# Altium footprint library Gennum Footprints.PcbLib: 88 footprints (part 2 of 6)
Each footprint in its own frame and in the unit in brackets; x right, y up, seen from the top. Pads: shape width x height; smd on the part's side, far side on the other; paste and mask are expansions set on the pad; w line width, h text height; cw(c..) or ccw(c..) is an arc to the next point about the centre after c.
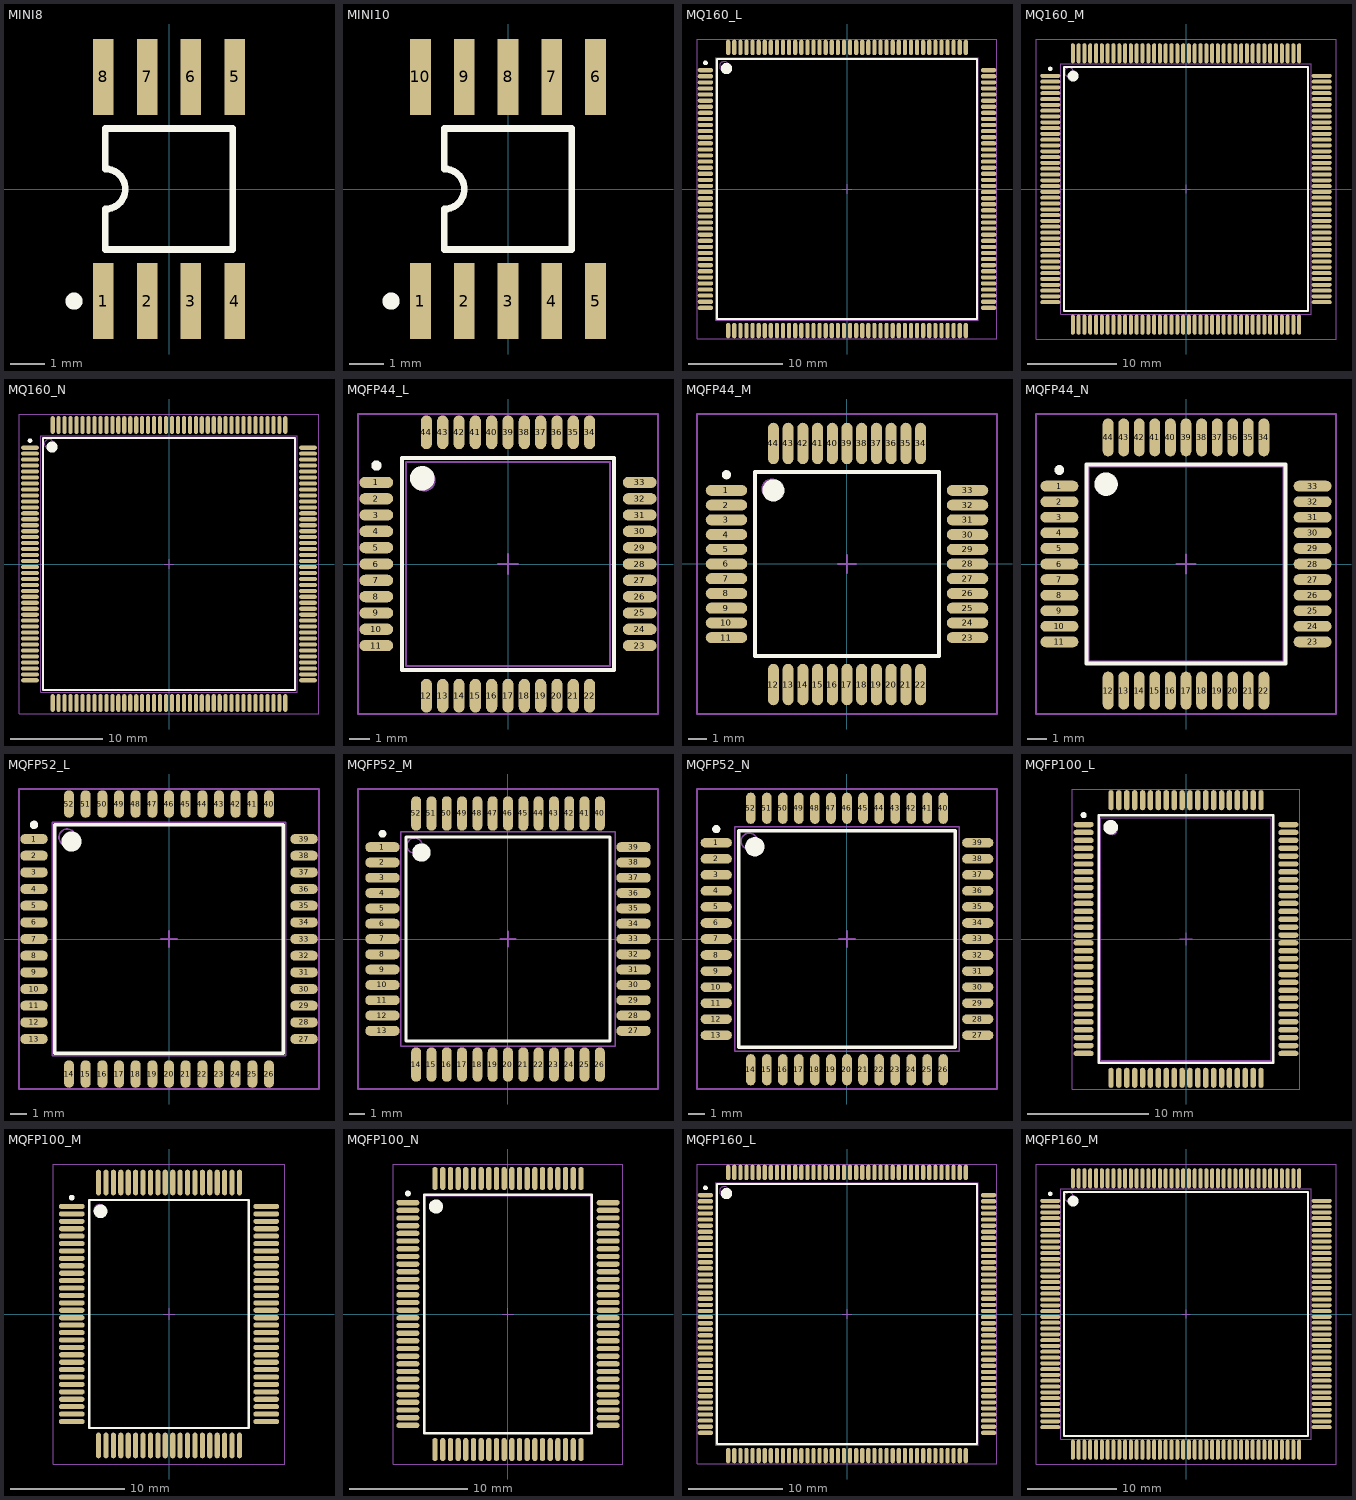
[diagram p1: the footprints below, top view; thin cyan lines are the x and y axes]

## MINI8 [mm] "DFP; 8 Leads; Body 3.7 x 3.6 mm (LxW max); Pitch 1.27 mm"
height 1.8
pads (8):
  rect 0.6x2.2 smd: 1(-1.905,-3.25) 2(-0.635,-3.25) 3(0.635,-3.25) 4(1.905,-3.25) 5(1.905,3.25) 6(0.635,3.25) 7(-0.635,3.25) 8(-1.905,3.25)
Top Overlay:
  circle w0.25: c-2.755,-3.25 r0.125
  lines w0.2: -1.85,-1.75 -1.85,-0.583 ccw(c-1.85,0) -1.85,0.583 -1.85,1.75 1.85,1.75 1.85,-1.75 -1.85,-1.75

## MINI10 [mm] "DFP; 10 Leads; Body 3.7 x 3.6 mm (LxW max); Pitch 1.27 mm"
height 1.8
pads (10):
  rect 0.6x2.2 smd: 1(-2.54,-3.25) 2(-1.27,-3.25) 3(0,-3.25) 4(1.27,-3.25) 5(2.54,-3.25) 6(2.54,3.25) 7(1.27,3.25) 8(0,3.25) 9(-1.27,3.25) 10(-2.54,3.25)
Top Overlay:
  circle w0.25: c-3.39,-3.25 r0.125
  lines w0.2: -1.85,-1.75 1.85,-1.75 1.85,1.75 -1.85,1.75 -1.85,0.583 cw(c-1.85,0) -1.85,-0.583 -1.85,-1.75

## MQ160_L [mm] "160-Pin Quad Flat Pack 0.65 mm Pitch, IPC High Density"
height 3.86
pads (160):
  oval 1.65x0.45 smd: 1(-15.1,12.675) 2(-15.1,12.025) 3(-15.1,11.375) 4(-15.1,10.725) 5(-15.1,10.075) 6(-15.1,9.425) 7(-15.1,8.775) 8(-15.1,8.125) 9(-15.1,7.475) 10(-15.1,6.825) 11(-15.1,6.175) 12(-15.1,5.525) 13(-15.1,4.875) 14(-15.1,4.225) 15(-15.1,3.575) 16(-15.1,2.925) 17(-15.1,2.275) 18(-15.1,1.625) 19(-15.1,0.975) 20(-15.1,0.325) 21(-15.1,-0.325) 22(-15.1,-0.975) 23(-15.1,-1.625) 24(-15.1,-2.275) 25(-15.1,-2.925) 26(-15.1,-3.575) 27(-15.1,-4.225) 28(-15.1,-4.875) 29(-15.1,-5.525) 30(-15.1,-6.175) 31(-15.1,-6.825) 32(-15.1,-7.475) 33(-15.1,-8.125) 34(-15.1,-8.775) 35(-15.1,-9.425) 36(-15.1,-10.075) 37(-15.1,-10.725) 38(-15.1,-11.375) 39(-15.1,-12.025) 40(-15.1,-12.675) 81(15.1,-12.675) 82(15.1,-12.025) 83(15.1,-11.375) 84(15.1,-10.725) 85(15.1,-10.075) 86(15.1,-9.425) 87(15.1,-8.775) 88(15.1,-8.125) 89(15.1,-7.475) 90(15.1,-6.825) 91(15.1,-6.175) 92(15.1,-5.525) 93(15.1,-4.875) 94(15.1,-4.225) 95(15.1,-3.575) 96(15.1,-2.925) 97(15.1,-2.275) 98(15.1,-1.625) 99(15.1,-0.975) 100(15.1,-0.325) 101(15.1,0.325) 102(15.1,0.975) 103(15.1,1.625) 104(15.1,2.275) 105(15.1,2.925) 106(15.1,3.575) 107(15.1,4.225) 108(15.1,4.875) 109(15.1,5.525) 110(15.1,6.175) 111(15.1,6.825) 112(15.1,7.475) 113(15.1,8.125) 114(15.1,8.775) 115(15.1,9.425) 116(15.1,10.075) 117(15.1,10.725) 118(15.1,11.375) 119(15.1,12.025) 120(15.1,12.675)
  oval 0.45x1.65 smd: 41(-12.675,-15.1) 42(-12.025,-15.1) 43(-11.375,-15.1) 44(-10.725,-15.1) 45(-10.075,-15.1) 46(-9.425,-15.1) 47(-8.775,-15.1) 48(-8.125,-15.1) 49(-7.475,-15.1) 50(-6.825,-15.1) 51(-6.175,-15.1) 52(-5.525,-15.1) 53(-4.875,-15.1) 54(-4.225,-15.1) 55(-3.575,-15.1) 56(-2.925,-15.1) 57(-2.275,-15.1) 58(-1.625,-15.1) 59(-0.975,-15.1) 60(-0.325,-15.1) 61(0.325,-15.1) 62(0.975,-15.1) 63(1.625,-15.1) 64(2.275,-15.1) 65(2.925,-15.1) 66(3.575,-15.1) 67(4.225,-15.1) 68(4.875,-15.1) 69(5.525,-15.1) 70(6.175,-15.1) 71(6.825,-15.1) 72(7.475,-15.1) 73(8.125,-15.1) 74(8.775,-15.1) 75(9.425,-15.1) 76(10.075,-15.1) 77(10.725,-15.1) 78(11.375,-15.1) 79(12.025,-15.1) 80(12.675,-15.1) 121(12.675,15.1) 122(12.025,15.1) 123(11.375,15.1) 124(10.725,15.1) 125(10.075,15.1) 126(9.425,15.1) 127(8.775,15.1) 128(8.125,15.1) 129(7.475,15.1) 130(6.825,15.1) 131(6.175,15.1) 132(5.525,15.1) 133(4.875,15.1) 134(4.225,15.1) 135(3.575,15.1) 136(2.925,15.1) 137(2.275,15.1) 138(1.625,15.1) 139(0.975,15.1) 140(0.325,15.1) 141(-0.325,15.1) 142(-0.975,15.1) 143(-1.625,15.1) 144(-2.275,15.1) 145(-2.925,15.1) 146(-3.575,15.1) 147(-4.225,15.1) 148(-4.875,15.1) 149(-5.525,15.1) 150(-6.175,15.1) 151(-6.825,15.1) 152(-7.475,15.1) 153(-8.125,15.1) 154(-8.775,15.1) 155(-9.425,15.1) 156(-10.075,15.1) 157(-10.725,15.1) 158(-11.375,15.1) 159(-12.025,15.1) 160(-12.675,15.1)
Top Overlay:
  circle w0.6: c-12.85,12.85 r0.3
  circle w0.25: c-15.1,13.45 r0.125
  lines w0.2: -13.85,-13.85 13.85,-13.85 13.85,13.85 -13.85,13.85 -13.85,-13.85
Mechanical 13:
  circle w0.1: c-13.1,13.1 r0.5
  lines w0.1: -14,-14 14,-14 14,14 -14,14 -14,-14
Mechanical 15:
  lines w0.1: -0.5,0 0.5,0 ; 0,-0.5 0,0.5 ; -16,-16 16,-16 16,16 -16,16 -16,-16
3D body: height 3.86, standoff 0, extent -14,-14 14,14

## MQ160_M [mm] "160-Pin Quad Flat Pack 0.65 mm Pitch, IPC Low Density"
height 3.86
pads (160):
  oval 2.25x0.45 smd: 1(-15.2,12.675) 2(-15.2,12.025) 3(-15.2,11.375) 4(-15.2,10.725) 5(-15.2,10.075) 6(-15.2,9.425) 7(-15.2,8.775) 8(-15.2,8.125) 9(-15.2,7.475) 10(-15.2,6.825) 11(-15.2,6.175) 12(-15.2,5.525) 13(-15.2,4.875) 14(-15.2,4.225) 15(-15.2,3.575) 16(-15.2,2.925) 17(-15.2,2.275) 18(-15.2,1.625) 19(-15.2,0.975) 20(-15.2,0.325) 21(-15.2,-0.325) 22(-15.2,-0.975) 23(-15.2,-1.625) 24(-15.2,-2.275) 25(-15.2,-2.925) 26(-15.2,-3.575) 27(-15.2,-4.225) 28(-15.2,-4.875) 29(-15.2,-5.525) 30(-15.2,-6.175) 31(-15.2,-6.825) 32(-15.2,-7.475) 33(-15.2,-8.125) 34(-15.2,-8.775) 35(-15.2,-9.425) 36(-15.2,-10.075) 37(-15.2,-10.725) 38(-15.2,-11.375) 39(-15.2,-12.025) 40(-15.2,-12.675) 81(15.2,-12.675) 82(15.2,-12.025) 83(15.2,-11.375) 84(15.2,-10.725) 85(15.2,-10.075) 86(15.2,-9.425) 87(15.2,-8.775) 88(15.2,-8.125) 89(15.2,-7.475) 90(15.2,-6.825) 91(15.2,-6.175) 92(15.2,-5.525) 93(15.2,-4.875) 94(15.2,-4.225) 95(15.2,-3.575) 96(15.2,-2.925) 97(15.2,-2.275) 98(15.2,-1.625) 99(15.2,-0.975) 100(15.2,-0.325) 101(15.2,0.325) 102(15.2,0.975) 103(15.2,1.625) 104(15.2,2.275) 105(15.2,2.925) 106(15.2,3.575) 107(15.2,4.225) 108(15.2,4.875) 109(15.2,5.525) 110(15.2,6.175) 111(15.2,6.825) 112(15.2,7.475) 113(15.2,8.125) 114(15.2,8.775) 115(15.2,9.425) 116(15.2,10.075) 117(15.2,10.725) 118(15.2,11.375) 119(15.2,12.025) 120(15.2,12.675)
  oval 0.45x2.25 smd: 41(-12.675,-15.2) 42(-12.025,-15.2) 43(-11.375,-15.2) 44(-10.725,-15.2) 45(-10.075,-15.2) 46(-9.425,-15.2) 47(-8.775,-15.2) 48(-8.125,-15.2) 49(-7.475,-15.2) 50(-6.825,-15.2) 51(-6.175,-15.2) 52(-5.525,-15.2) 53(-4.875,-15.2) 54(-4.225,-15.2) 55(-3.575,-15.2) 56(-2.925,-15.2) 57(-2.275,-15.2) 58(-1.625,-15.2) 59(-0.975,-15.2) 60(-0.325,-15.2) 61(0.325,-15.2) 62(0.975,-15.2) 63(1.625,-15.2) 64(2.275,-15.2) 65(2.925,-15.2) 66(3.575,-15.2) 67(4.225,-15.2) 68(4.875,-15.2) 69(5.525,-15.2) 70(6.175,-15.2) 71(6.825,-15.2) 72(7.475,-15.2) 73(8.125,-15.2) 74(8.775,-15.2) 75(9.425,-15.2) 76(10.075,-15.2) 77(10.725,-15.2) 78(11.375,-15.2) 79(12.025,-15.2) 80(12.675,-15.2) 121(12.675,15.2) 122(12.025,15.2) 123(11.375,15.2) 124(10.725,15.2) 125(10.075,15.2) 126(9.425,15.2) 127(8.775,15.2) 128(8.125,15.2) 129(7.475,15.2) 130(6.825,15.2) 131(6.175,15.2) 132(5.525,15.2) 133(4.875,15.2) 134(4.225,15.2) 135(3.575,15.2) 136(2.925,15.2) 137(2.275,15.2) 138(1.625,15.2) 139(0.975,15.2) 140(0.325,15.2) 141(-0.325,15.2) 142(-0.975,15.2) 143(-1.625,15.2) 144(-2.275,15.2) 145(-2.925,15.2) 146(-3.575,15.2) 147(-4.225,15.2) 148(-4.875,15.2) 149(-5.525,15.2) 150(-6.175,15.2) 151(-6.825,15.2) 152(-7.475,15.2) 153(-8.125,15.2) 154(-8.775,15.2) 155(-9.425,15.2) 156(-10.075,15.2) 157(-10.725,15.2) 158(-11.375,15.2) 159(-12.025,15.2) 160(-12.675,15.2)
Top Overlay:
  circle w0.6: c-12.65,12.65 r0.3
  circle w0.25: c-15.2,13.45 r0.125
  lines w0.2: -13.65,-13.65 13.65,-13.65 13.65,13.65 -13.65,13.65 -13.65,-13.65
Mechanical 13:
  circle w0.1: c-13.1,13.1 r0.5
  lines w0.1: -14,-14 14,-14 14,14 -14,14 -14,-14
Mechanical 15:
  lines w0.1: -0.5,0 0.5,0 ; 0,-0.5 0,0.5 ; -16.8,-16.8 16.8,-16.8 16.8,16.8 -16.8,16.8 -16.8,-16.8
3D body: height 3.86, standoff 0, extent -14,-14 14,14

## MQ160_N [mm] "160-Pin Quad Flat Pack 0.65 mm Pitch, IPC Medium Density"
height 3.86
pads (160):
  oval 1.95x0.45 smd: 1(-15.15,12.675) 2(-15.15,12.025) 3(-15.15,11.375) 4(-15.15,10.725) 5(-15.15,10.075) 6(-15.15,9.425) 7(-15.15,8.775) 8(-15.15,8.125) 9(-15.15,7.475) 10(-15.15,6.825) 11(-15.15,6.175) 12(-15.15,5.525) 13(-15.15,4.875) 14(-15.15,4.225) 15(-15.15,3.575) 16(-15.15,2.925) 17(-15.15,2.275) 18(-15.15,1.625) 19(-15.15,0.975) 20(-15.15,0.325) 21(-15.15,-0.325) 22(-15.15,-0.975) 23(-15.15,-1.625) 24(-15.15,-2.275) 25(-15.15,-2.925) 26(-15.15,-3.575) 27(-15.15,-4.225) 28(-15.15,-4.875) 29(-15.15,-5.525) 30(-15.15,-6.175) 31(-15.15,-6.825) 32(-15.15,-7.475) 33(-15.15,-8.125) 34(-15.15,-8.775) 35(-15.15,-9.425) 36(-15.15,-10.075) 37(-15.15,-10.725) 38(-15.15,-11.375) 39(-15.15,-12.025) 40(-15.15,-12.675) 81(15.15,-12.675) 82(15.15,-12.025) 83(15.15,-11.375) 84(15.15,-10.725) 85(15.15,-10.075) 86(15.15,-9.425) 87(15.15,-8.775) 88(15.15,-8.125) 89(15.15,-7.475) 90(15.15,-6.825) 91(15.15,-6.175) 92(15.15,-5.525) 93(15.15,-4.875) 94(15.15,-4.225) 95(15.15,-3.575) 96(15.15,-2.925) 97(15.15,-2.275) 98(15.15,-1.625) 99(15.15,-0.975) 100(15.15,-0.325) 101(15.15,0.325) 102(15.15,0.975) 103(15.15,1.625) 104(15.15,2.275) 105(15.15,2.925) 106(15.15,3.575) 107(15.15,4.225) 108(15.15,4.875) 109(15.15,5.525) 110(15.15,6.175) 111(15.15,6.825) 112(15.15,7.475) 113(15.15,8.125) 114(15.15,8.775) 115(15.15,9.425) 116(15.15,10.075) 117(15.15,10.725) 118(15.15,11.375) 119(15.15,12.025) 120(15.15,12.675)
  oval 0.45x1.95 smd: 41(-12.675,-15.15) 42(-12.025,-15.15) 43(-11.375,-15.15) 44(-10.725,-15.15) 45(-10.075,-15.15) 46(-9.425,-15.15) 47(-8.775,-15.15) 48(-8.125,-15.15) 49(-7.475,-15.15) 50(-6.825,-15.15) 51(-6.175,-15.15) 52(-5.525,-15.15) 53(-4.875,-15.15) 54(-4.225,-15.15) 55(-3.575,-15.15) 56(-2.925,-15.15) 57(-2.275,-15.15) 58(-1.625,-15.15) 59(-0.975,-15.15) 60(-0.325,-15.15) 61(0.325,-15.15) 62(0.975,-15.15) 63(1.625,-15.15) 64(2.275,-15.15) 65(2.925,-15.15) 66(3.575,-15.15) 67(4.225,-15.15) 68(4.875,-15.15) 69(5.525,-15.15) 70(6.175,-15.15) 71(6.825,-15.15) 72(7.475,-15.15) 73(8.125,-15.15) 74(8.775,-15.15) 75(9.425,-15.15) 76(10.075,-15.15) 77(10.725,-15.15) 78(11.375,-15.15) 79(12.025,-15.15) 80(12.675,-15.15) 121(12.675,15.15) 122(12.025,15.15) 123(11.375,15.15) 124(10.725,15.15) 125(10.075,15.15) 126(9.425,15.15) 127(8.775,15.15) 128(8.125,15.15) 129(7.475,15.15) 130(6.825,15.15) 131(6.175,15.15) 132(5.525,15.15) 133(4.875,15.15) 134(4.225,15.15) 135(3.575,15.15) 136(2.925,15.15) 137(2.275,15.15) 138(1.625,15.15) 139(0.975,15.15) 140(0.325,15.15) 141(-0.325,15.15) 142(-0.975,15.15) 143(-1.625,15.15) 144(-2.275,15.15) 145(-2.925,15.15) 146(-3.575,15.15) 147(-4.225,15.15) 148(-4.875,15.15) 149(-5.525,15.15) 150(-6.175,15.15) 151(-6.825,15.15) 152(-7.475,15.15) 153(-8.125,15.15) 154(-8.775,15.15) 155(-9.425,15.15) 156(-10.075,15.15) 157(-10.725,15.15) 158(-11.375,15.15) 159(-12.025,15.15) 160(-12.675,15.15)
Top Overlay:
  circle w0.6: c-12.75,12.75 r0.3
  circle w0.25: c-15.15,13.45 r0.125
  lines w0.2: -13.75,-13.75 13.75,-13.75 13.75,13.75 -13.75,13.75 -13.75,-13.75
Mechanical 13:
  circle w0.1: c-13.1,13.1 r0.5
  lines w0.1: -14,-14 14,-14 14,14 -14,14 -14,-14
Mechanical 15:
  lines w0.1: -0.5,0 0.5,0 ; 0,-0.5 0,0.5 ; -16.35,-16.35 16.35,-16.35 16.35,16.35 -16.35,16.35 -16.35,-16.35
3D body: height 3.86, standoff 0, extent -14,-14 14,14

## MQFP44_L [mm] "44-Pin Quad Flat Pack 0.8 mm Pitch, IPC High Density"
height 2.35
pads (44):
  oval 1.65x0.55 smd: 1(-6.45,4) 2(-6.45,3.2) 3(-6.45,2.4) 4(-6.45,1.6) 5(-6.45,0.8) 6(-6.45,0) 7(-6.45,-0.8) 8(-6.45,-1.6) 9(-6.45,-2.4) 10(-6.45,-3.2) 11(-6.45,-4) 23(6.45,-4) 24(6.45,-3.2) 25(6.45,-2.4) 26(6.45,-1.6) 27(6.45,-0.8) 28(6.45,0) 29(6.45,0.8) 30(6.45,1.6) 31(6.45,2.4) 32(6.45,3.2) 33(6.45,4)
  oval 0.55x1.65 smd: 12(-4,-6.45) 13(-3.2,-6.45) 14(-2.4,-6.45) 15(-1.6,-6.45) 16(-0.8,-6.45) 17(0,-6.45) 18(0.8,-6.45) 19(1.6,-6.45) 20(2.4,-6.45) 21(3.2,-6.45) 22(4,-6.45) 34(4,6.45) 35(3.2,6.45) 36(2.4,6.45) 37(1.6,6.45) 38(0.8,6.45) 39(0,6.45) 40(-0.8,6.45) 41(-1.6,6.45) 42(-2.4,6.45) 43(-3.2,6.45) 44(-4,6.45)
Top Overlay:
  circle w0.6: c-4.2,4.2 r0.3
  circle w0.25: c-6.45,4.825 r0.125
  lines w0.2: -5.2,-5.2 5.2,-5.2 5.2,5.2 -5.2,5.2 -5.2,-5.2
Mechanical 13:
  circle w0.1: c-4.1,4.1 r0.5
  lines w0.1: -5,-5 5,-5 5,5 -5,5 -5,-5
Mechanical 15:
  lines w0.1: -0.5,0 0.5,0 ; 0,-0.5 0,0.5 ; -7.35,-7.35 7.35,-7.35 7.35,7.35 -7.35,7.35 -7.35,-7.35
3D body: height 2.35, standoff 0, extent -5,-5 5,5

## MQFP44_M [mm] "44-Pin Quad Flat Pack 0.8 mm Pitch, IPC Low Density"
height 2.35
pads (44):
  oval 2.25x0.6 smd: 1(-6.55,4) 2(-6.55,3.2) 3(-6.55,2.4) 4(-6.55,1.6) 5(-6.55,0.8) 6(-6.55,0) 7(-6.55,-0.8) 8(-6.55,-1.6) 9(-6.55,-2.4) 10(-6.55,-3.2) 11(-6.55,-4) 23(6.55,-4) 24(6.55,-3.2) 25(6.55,-2.4) 26(6.55,-1.6) 27(6.55,-0.8) 28(6.55,0) 29(6.55,0.8) 30(6.55,1.6) 31(6.55,2.4) 32(6.55,3.2) 33(6.55,4)
  oval 0.6x2.25 smd: 12(-4,-6.55) 13(-3.2,-6.55) 14(-2.4,-6.55) 15(-1.6,-6.55) 16(-0.8,-6.55) 17(0,-6.55) 18(0.8,-6.55) 19(1.6,-6.55) 20(2.4,-6.55) 21(3.2,-6.55) 22(4,-6.55) 34(4,6.55) 35(3.2,6.55) 36(2.4,6.55) 37(1.6,6.55) 38(0.8,6.55) 39(0,6.55) 40(-0.8,6.55) 41(-1.6,6.55) 42(-2.4,6.55) 43(-3.2,6.55) 44(-4,6.55)
Top Overlay:
  circle w0.6: c-4,4 r0.3
  circle w0.25: c-6.55,4.85 r0.125
  lines w0.2: -5,-5 5,-5 5,5 -5,5 -5,-5
Mechanical 13:
  circle w0.1: c-4.1,4.1 r0.5
  lines w0.1: -5,-5 5,-5 5,5 -5,5 -5,-5
Mechanical 15:
  lines w0.1: -0.5,0 0.5,0 ; 0,-0.5 0,0.5 ; -8.15,-8.15 8.15,-8.15 8.15,8.15 -8.15,8.15 -8.15,-8.15
3D body: height 2.35, standoff 0, extent -5,-5 5,5

## MQFP44_N [mm] "44-Pin Quad Flat Pack 0.8 mm Pitch, IPC Medium Density"
height 2.35
pads (44):
  oval 1.95x0.55 smd: 1(-6.5,4) 2(-6.5,3.2) 3(-6.5,2.4) 4(-6.5,1.6) 5(-6.5,0.8) 6(-6.5,0) 7(-6.5,-0.8) 8(-6.5,-1.6) 9(-6.5,-2.4) 10(-6.5,-3.2) 11(-6.5,-4) 23(6.5,-4) 24(6.5,-3.2) 25(6.5,-2.4) 26(6.5,-1.6) 27(6.5,-0.8) 28(6.5,0) 29(6.5,0.8) 30(6.5,1.6) 31(6.5,2.4) 32(6.5,3.2) 33(6.5,4)
  oval 0.55x1.95 smd: 12(-4,-6.5) 13(-3.2,-6.5) 14(-2.4,-6.5) 15(-1.6,-6.5) 16(-0.8,-6.5) 17(0,-6.5) 18(0.8,-6.5) 19(1.6,-6.5) 20(2.4,-6.5) 21(3.2,-6.5) 22(4,-6.5) 34(4,6.5) 35(3.2,6.5) 36(2.4,6.5) 37(1.6,6.5) 38(0.8,6.5) 39(0,6.5) 40(-0.8,6.5) 41(-1.6,6.5) 42(-2.4,6.5) 43(-3.2,6.5) 44(-4,6.5)
Top Overlay:
  circle w0.6: c-4.1,4.1 r0.3
  circle w0.25: c-6.5,4.825 r0.125
  lines w0.2: -5.1,-5.1 5.1,-5.1 5.1,5.1 -5.1,5.1 -5.1,-5.1
Mechanical 13:
  circle w0.1: c-4.1,4.1 r0.5
  lines w0.1: -5,-5 5,-5 5,5 -5,5 -5,-5
Mechanical 15:
  lines w0.1: -0.5,0 0.5,0 ; 0,-0.5 0,0.5 ; -7.7,-7.7 7.7,-7.7 7.7,7.7 -7.7,7.7 -7.7,-7.7
3D body: height 2.35, standoff 0, extent -5,-5 5,5

## MQFP52_L [mm] "52-Pin Quad Flat Pack 1 mm Pitch, IPC High Density"
height 3
pads (52):
  oval 1.65x0.6 smd: 1(-8.1,6) 2(-8.1,5) 3(-8.1,4) 4(-8.1,3) 5(-8.1,2) 6(-8.1,1) 7(-8.1,0) 8(-8.1,-1) 9(-8.1,-2) 10(-8.1,-3) 11(-8.1,-4) 12(-8.1,-5) 13(-8.1,-6) 27(8.1,-6) 28(8.1,-5) 29(8.1,-4) 30(8.1,-3) 31(8.1,-2) 32(8.1,-1) 33(8.1,0) 34(8.1,1) 35(8.1,2) 36(8.1,3) 37(8.1,4) 38(8.1,5) 39(8.1,6)
  oval 0.6x1.65 smd: 14(-6,-8.1) 15(-5,-8.1) 16(-4,-8.1) 17(-3,-8.1) 18(-2,-8.1) 19(-1,-8.1) 20(0,-8.1) 21(1,-8.1) 22(2,-8.1) 23(3,-8.1) 24(4,-8.1) 25(5,-8.1) 26(6,-8.1) 40(6,8.1) 41(5,8.1) 42(4,8.1) 43(3,8.1) 44(2,8.1) 45(1,8.1) 46(0,8.1) 47(-1,8.1) 48(-2,8.1) 49(-3,8.1) 50(-4,8.1) 51(-5,8.1) 52(-6,8.1)
Top Overlay:
  circle w0.6: c-5.85,5.85 r0.3
  circle w0.25: c-8.1,6.85 r0.125
  lines w0.2: -6.85,-6.85 6.85,-6.85 6.85,6.85 -6.85,6.85 -6.85,-6.85
Mechanical 13:
  circle w0.1: c-6.1,6.1 r0.5
  lines w0.1: -7,-7 7,-7 7,7 -7,7 -7,-7
Mechanical 15:
  lines w0.1: -0.5,0 0.5,0 ; 0,-0.5 0,0.5 ; -9,-9 9,-9 9,9 -9,9 -9,-9
3D body: height 3, standoff 0, extent -7,-7 7,7

## MQFP52_M [mm] "52-Pin Quad Flat Pack 1 mm Pitch, IPC Low Density"
height 3
pads (52):
  oval 2.25x0.65 smd: 1(-8.2,6) 2(-8.2,5) 3(-8.2,4) 4(-8.2,3) 5(-8.2,2) 6(-8.2,1) 7(-8.2,0) 8(-8.2,-1) 9(-8.2,-2) 10(-8.2,-3) 11(-8.2,-4) 12(-8.2,-5) 13(-8.2,-6) 27(8.2,-6) 28(8.2,-5) 29(8.2,-4) 30(8.2,-3) 31(8.2,-2) 32(8.2,-1) 33(8.2,0) 34(8.2,1) 35(8.2,2) 36(8.2,3) 37(8.2,4) 38(8.2,5) 39(8.2,6)
  oval 0.65x2.25 smd: 14(-6,-8.2) 15(-5,-8.2) 16(-4,-8.2) 17(-3,-8.2) 18(-2,-8.2) 19(-1,-8.2) 20(0,-8.2) 21(1,-8.2) 22(2,-8.2) 23(3,-8.2) 24(4,-8.2) 25(5,-8.2) 26(6,-8.2) 40(6,8.2) 41(5,8.2) 42(4,8.2) 43(3,8.2) 44(2,8.2) 45(1,8.2) 46(0,8.2) 47(-1,8.2) 48(-2,8.2) 49(-3,8.2) 50(-4,8.2) 51(-5,8.2) 52(-6,8.2)
Top Overlay:
  circle w0.25: c-8.2,6.875 r0.125
  circle w0.6: c-5.65,5.65 r0.3
  lines w0.2: -6.65,-6.65 -6.65,6.65 6.65,6.65 6.65,-6.65 -6.65,-6.65
Mechanical 13:
  circle w0.1: c-6.1,6.1 r0.5
  lines w0.1: -7,-7 -7,7 7,7 7,-7 -7,-7
Mechanical 15:
  lines w0.1: -0.5,0 0.5,0 ; 0,-0.5 0,0.5 ; -9.8,-9.8 -9.8,9.8 9.8,9.8 9.8,-9.8 -9.8,-9.8
3D body: height 3, standoff 0, extent -7,-7 7,7

## MQFP52_N [mm] "52-Pin Quad Flat Pack 1 mm Pitch, IPC Medium Density"
height 3
pads (52):
  oval 1.95x0.6 smd: 1(-8.15,6) 2(-8.15,5) 3(-8.15,4) 4(-8.15,3) 5(-8.15,2) 6(-8.15,1) 7(-8.15,0) 8(-8.15,-1) 9(-8.15,-2) 10(-8.15,-3) 11(-8.15,-4) 12(-8.15,-5) 13(-8.15,-6) 27(8.15,-6) 28(8.15,-5) 29(8.15,-4) 30(8.15,-3) 31(8.15,-2) 32(8.15,-1) 33(8.15,0) 34(8.15,1) 35(8.15,2) 36(8.15,3) 37(8.15,4) 38(8.15,5) 39(8.15,6)
  oval 0.6x1.95 smd: 14(-6,-8.15) 15(-5,-8.15) 16(-4,-8.15) 17(-3,-8.15) 18(-2,-8.15) 19(-1,-8.15) 20(0,-8.15) 21(1,-8.15) 22(2,-8.15) 23(3,-8.15) 24(4,-8.15) 25(5,-8.15) 26(6,-8.15) 40(6,8.15) 41(5,8.15) 42(4,8.15) 43(3,8.15) 44(2,8.15) 45(1,8.15) 46(0,8.15) 47(-1,8.15) 48(-2,8.15) 49(-3,8.15) 50(-4,8.15) 51(-5,8.15) 52(-6,8.15)
Top Overlay:
  circle w0.25: c-8.15,6.85 r0.125
  circle w0.6: c-5.75,5.75 r0.3
  lines w0.2: -6.75,-6.75 -6.75,6.75 6.75,6.75 6.75,-6.75 -6.75,-6.75
Mechanical 13:
  circle w0.1: c-6.1,6.1 r0.5
  lines w0.1: -7,-7 -7,7 7,7 7,-7 -7,-7
Mechanical 15:
  lines w0.1: -0.5,0 0.5,0 ; 0,-0.5 0,0.5 ; -9.35,-9.35 -9.35,9.35 9.35,9.35 9.35,-9.35 -9.35,-9.35
3D body: height 3, standoff 0, extent -7,-7 7,7

## MQFP100_L [mm] "100-Pin Quad Flat Pack Rectangular 0.65 mm Pitch, IPC High Density"
height 3.3
pads (100):
  oval 1.65x0.45 smd: 1(-8.425,9.425) 2(-8.425,8.775) 3(-8.425,8.125) 4(-8.425,7.475) 5(-8.425,6.825) 6(-8.425,6.175) 7(-8.425,5.525) 8(-8.425,4.875) 9(-8.425,4.225) 10(-8.425,3.575) 11(-8.425,2.925) 12(-8.425,2.275) 13(-8.425,1.625) 14(-8.425,0.975) 15(-8.425,0.325) 16(-8.425,-0.325) 17(-8.425,-0.975) 18(-8.425,-1.625) 19(-8.425,-2.275) 20(-8.425,-2.925) 21(-8.425,-3.575) 22(-8.425,-4.225) 23(-8.425,-4.875) 24(-8.425,-5.525) 25(-8.425,-6.175) 26(-8.425,-6.825) 27(-8.425,-7.475) 28(-8.425,-8.125) 29(-8.425,-8.775) 30(-8.425,-9.425) 51(8.425,-9.425) 52(8.425,-8.775) 53(8.425,-8.125) 54(8.425,-7.475) 55(8.425,-6.825) 56(8.425,-6.175) 57(8.425,-5.525) 58(8.425,-4.875) 59(8.425,-4.225) 60(8.425,-3.575) 61(8.425,-2.925) 62(8.425,-2.275) 63(8.425,-1.625) 64(8.425,-0.975) 65(8.425,-0.325) 66(8.425,0.325) 67(8.425,0.975) 68(8.425,1.625) 69(8.425,2.275) 70(8.425,2.925) 71(8.425,3.575) 72(8.425,4.225) 73(8.425,4.875) 74(8.425,5.525) 75(8.425,6.175) 76(8.425,6.825) 77(8.425,7.475) 78(8.425,8.125) 79(8.425,8.775) 80(8.425,9.425)
  oval 0.45x1.65 smd: 31(-6.175,-11.425) 32(-5.525,-11.425) 33(-4.875,-11.425) 34(-4.225,-11.425) 35(-3.575,-11.425) 36(-2.925,-11.425) 37(-2.275,-11.425) 38(-1.625,-11.425) 39(-0.975,-11.425) 40(-0.325,-11.425) 41(0.325,-11.425) 42(0.975,-11.425) 43(1.625,-11.425) 44(2.275,-11.425) 45(2.925,-11.425) 46(3.575,-11.425) 47(4.225,-11.425) 48(4.875,-11.425) 49(5.525,-11.425) 50(6.175,-11.425) 81(6.175,11.425) 82(5.525,11.425) 83(4.875,11.425) 84(4.225,11.425) 85(3.575,11.425) 86(2.925,11.425) 87(2.275,11.425) 88(1.625,11.425) 89(0.975,11.425) 90(0.325,11.425) 91(-0.325,11.425) 92(-0.975,11.425) 93(-1.625,11.425) 94(-2.275,11.425) 95(-2.925,11.425) 96(-3.575,11.425) 97(-4.225,11.425) 98(-4.875,11.425) 99(-5.525,11.425) 100(-6.175,11.425)
Top Overlay:
  circle w0.6: c-6.2,9.2 r0.3
  circle w0.25: c-8.425,10.2 r0.125
  lines w0.2: -7.2,-10.2 7.2,-10.2 7.2,10.2 -7.2,10.2 -7.2,-10.2
Mechanical 13:
  circle w0.1: c-6.1,9.1 r0.5
  lines w0.1: -7,-10 7,-10 7,10 -7,10 -7,-10
Mechanical 15:
  lines w0.1: -0.5,0 0.5,0 ; 0,-0.5 0,0.5 ; -9.35,-12.35 9.35,-12.35 9.35,12.35 -9.35,12.35 -9.35,-12.35
3D body: height 3.3, standoff 0, extent -7,-10 7,10

## MQFP100_M [mm] "100-Pin Quad Flat Pack Rectangular 0.65 mm Pitch, IPC Low Density"
height 3.3
pads (100):
  oval 2.25x0.45 smd: 1(-8.525,9.425) 2(-8.525,8.775) 3(-8.525,8.125) 4(-8.525,7.475) 5(-8.525,6.825) 6(-8.525,6.175) 7(-8.525,5.525) 8(-8.525,4.875) 9(-8.525,4.225) 10(-8.525,3.575) 11(-8.525,2.925) 12(-8.525,2.275) 13(-8.525,1.625) 14(-8.525,0.975) 15(-8.525,0.325) 16(-8.525,-0.325) 17(-8.525,-0.975) 18(-8.525,-1.625) 19(-8.525,-2.275) 20(-8.525,-2.925) 21(-8.525,-3.575) 22(-8.525,-4.225) 23(-8.525,-4.875) 24(-8.525,-5.525) 25(-8.525,-6.175) 26(-8.525,-6.825) 27(-8.525,-7.475) 28(-8.525,-8.125) 29(-8.525,-8.775) 30(-8.525,-9.425) 51(8.525,-9.425) 52(8.525,-8.775) 53(8.525,-8.125) 54(8.525,-7.475) 55(8.525,-6.825) 56(8.525,-6.175) 57(8.525,-5.525) 58(8.525,-4.875) 59(8.525,-4.225) 60(8.525,-3.575) 61(8.525,-2.925) 62(8.525,-2.275) 63(8.525,-1.625) 64(8.525,-0.975) 65(8.525,-0.325) 66(8.525,0.325) 67(8.525,0.975) 68(8.525,1.625) 69(8.525,2.275) 70(8.525,2.925) 71(8.525,3.575) 72(8.525,4.225) 73(8.525,4.875) 74(8.525,5.525) 75(8.525,6.175) 76(8.525,6.825) 77(8.525,7.475) 78(8.525,8.125) 79(8.525,8.775) 80(8.525,9.425)
  oval 0.45x2.25 smd: 31(-6.175,-11.525) 32(-5.525,-11.525) 33(-4.875,-11.525) 34(-4.225,-11.525) 35(-3.575,-11.525) 36(-2.925,-11.525) 37(-2.275,-11.525) 38(-1.625,-11.525) 39(-0.975,-11.525) 40(-0.325,-11.525) 41(0.325,-11.525) 42(0.975,-11.525) 43(1.625,-11.525) 44(2.275,-11.525) 45(2.925,-11.525) 46(3.575,-11.525) 47(4.225,-11.525) 48(4.875,-11.525) 49(5.525,-11.525) 50(6.175,-11.525) 81(6.175,11.525) 82(5.525,11.525) 83(4.875,11.525) 84(4.225,11.525) 85(3.575,11.525) 86(2.925,11.525) 87(2.275,11.525) 88(1.625,11.525) 89(0.975,11.525) 90(0.325,11.525) 91(-0.325,11.525) 92(-0.975,11.525) 93(-1.625,11.525) 94(-2.275,11.525) 95(-2.925,11.525) 96(-3.575,11.525) 97(-4.225,11.525) 98(-4.875,11.525) 99(-5.525,11.525) 100(-6.175,11.525)
Top Overlay:
  circle w0.25: c-8.525,10.2 r0.125
  circle w0.6: c-6,9 r0.3
  lines w0.2: -7,-10 -7,10 7,10 7,-10 -7,-10
Mechanical 13:
  circle w0.1: c-6.1,9.1 r0.5
  lines w0.1: -7,-10 -7,10 7,10 7,-10 -7,-10
Mechanical 15:
  lines w0.1: -0.5,0 0.5,0 ; 0,-0.5 0,0.5 ; -10.15,-13.15 -10.15,13.15 10.15,13.15 10.15,-13.15 -10.15,-13.15
3D body: height 3.3, standoff 0, extent -7,-10 7,10

## MQFP100_N [mm] "100-Pin Quad Flat Pack Rectangular 0.65 mm Pitch, IPC Medium Density"
height 3.3
pads (100):
  oval 1.95x0.45 smd: 1(-8.475,9.425) 2(-8.475,8.775) 3(-8.475,8.125) 4(-8.475,7.475) 5(-8.475,6.825) 6(-8.475,6.175) 7(-8.475,5.525) 8(-8.475,4.875) 9(-8.475,4.225) 10(-8.475,3.575) 11(-8.475,2.925) 12(-8.475,2.275) 13(-8.475,1.625) 14(-8.475,0.975) 15(-8.475,0.325) 16(-8.475,-0.325) 17(-8.475,-0.975) 18(-8.475,-1.625) 19(-8.475,-2.275) 20(-8.475,-2.925) 21(-8.475,-3.575) 22(-8.475,-4.225) 23(-8.475,-4.875) 24(-8.475,-5.525) 25(-8.475,-6.175) 26(-8.475,-6.825) 27(-8.475,-7.475) 28(-8.475,-8.125) 29(-8.475,-8.775) 30(-8.475,-9.425) 51(8.475,-9.425) 52(8.475,-8.775) 53(8.475,-8.125) 54(8.475,-7.475) 55(8.475,-6.825) 56(8.475,-6.175) 57(8.475,-5.525) 58(8.475,-4.875) 59(8.475,-4.225) 60(8.475,-3.575) 61(8.475,-2.925) 62(8.475,-2.275) 63(8.475,-1.625) 64(8.475,-0.975) 65(8.475,-0.325) 66(8.475,0.325) 67(8.475,0.975) 68(8.475,1.625) 69(8.475,2.275) 70(8.475,2.925) 71(8.475,3.575) 72(8.475,4.225) 73(8.475,4.875) 74(8.475,5.525) 75(8.475,6.175) 76(8.475,6.825) 77(8.475,7.475) 78(8.475,8.125) 79(8.475,8.775) 80(8.475,9.425)
  oval 0.45x1.95 smd: 31(-6.175,-11.475) 32(-5.525,-11.475) 33(-4.875,-11.475) 34(-4.225,-11.475) 35(-3.575,-11.475) 36(-2.925,-11.475) 37(-2.275,-11.475) 38(-1.625,-11.475) 39(-0.975,-11.475) 40(-0.325,-11.475) 41(0.325,-11.475) 42(0.975,-11.475) 43(1.625,-11.475) 44(2.275,-11.475) 45(2.925,-11.475) 46(3.575,-11.475) 47(4.225,-11.475) 48(4.875,-11.475) 49(5.525,-11.475) 50(6.175,-11.475) 81(6.175,11.475) 82(5.525,11.475) 83(4.875,11.475) 84(4.225,11.475) 85(3.575,11.475) 86(2.925,11.475) 87(2.275,11.475) 88(1.625,11.475) 89(0.975,11.475) 90(0.325,11.475) 91(-0.325,11.475) 92(-0.975,11.475) 93(-1.625,11.475) 94(-2.275,11.475) 95(-2.925,11.475) 96(-3.575,11.475) 97(-4.225,11.475) 98(-4.875,11.475) 99(-5.525,11.475) 100(-6.175,11.475)
Top Overlay:
  circle w0.25: c-8.475,10.2 r0.125
  circle w0.6: c-6.1,9.1 r0.3
  lines w0.2: -7.1,-10.1 -7.1,10.1 7.1,10.1 7.1,-10.1 -7.1,-10.1
Mechanical 13:
  circle w0.1: c-6.1,9.1 r0.5
  lines w0.1: -7,-10 -7,10 7,10 7,-10 -7,-10
Mechanical 15:
  lines w0.1: -0.5,0 0.5,0 ; 0,-0.5 0,0.5 ; -9.7,-12.7 -9.7,12.7 9.7,12.7 9.7,-12.7 -9.7,-12.7
3D body: height 3.3, standoff 0, extent -7,-10 7,10

## MQFP160_L [mm] "160-Pin Quad Flat Pack 0.65 mm Pitch, IPC High Density"
height 4.1
pads (160):
  oval 1.65x0.45 smd: 1(-15.1,12.675) 2(-15.1,12.025) 3(-15.1,11.375) 4(-15.1,10.725) 5(-15.1,10.075) 6(-15.1,9.425) 7(-15.1,8.775) 8(-15.1,8.125) 9(-15.1,7.475) 10(-15.1,6.825) 11(-15.1,6.175) 12(-15.1,5.525) 13(-15.1,4.875) 14(-15.1,4.225) 15(-15.1,3.575) 16(-15.1,2.925) 17(-15.1,2.275) 18(-15.1,1.625) 19(-15.1,0.975) 20(-15.1,0.325) 21(-15.1,-0.325) 22(-15.1,-0.975) 23(-15.1,-1.625) 24(-15.1,-2.275) 25(-15.1,-2.925) 26(-15.1,-3.575) 27(-15.1,-4.225) 28(-15.1,-4.875) 29(-15.1,-5.525) 30(-15.1,-6.175) 31(-15.1,-6.825) 32(-15.1,-7.475) 33(-15.1,-8.125) 34(-15.1,-8.775) 35(-15.1,-9.425) 36(-15.1,-10.075) 37(-15.1,-10.725) 38(-15.1,-11.375) 39(-15.1,-12.025) 40(-15.1,-12.675) 81(15.1,-12.675) 82(15.1,-12.025) 83(15.1,-11.375) 84(15.1,-10.725) 85(15.1,-10.075) 86(15.1,-9.425) 87(15.1,-8.775) 88(15.1,-8.125) 89(15.1,-7.475) 90(15.1,-6.825) 91(15.1,-6.175) 92(15.1,-5.525) 93(15.1,-4.875) 94(15.1,-4.225) 95(15.1,-3.575) 96(15.1,-2.925) 97(15.1,-2.275) 98(15.1,-1.625) 99(15.1,-0.975) 100(15.1,-0.325) 101(15.1,0.325) 102(15.1,0.975) 103(15.1,1.625) 104(15.1,2.275) 105(15.1,2.925) 106(15.1,3.575) 107(15.1,4.225) 108(15.1,4.875) 109(15.1,5.525) 110(15.1,6.175) 111(15.1,6.825) 112(15.1,7.475) 113(15.1,8.125) 114(15.1,8.775) 115(15.1,9.425) 116(15.1,10.075) 117(15.1,10.725) 118(15.1,11.375) 119(15.1,12.025) 120(15.1,12.675)
  oval 0.45x1.65 smd: 41(-12.675,-15.1) 42(-12.025,-15.1) 43(-11.375,-15.1) 44(-10.725,-15.1) 45(-10.075,-15.1) 46(-9.425,-15.1) 47(-8.775,-15.1) 48(-8.125,-15.1) 49(-7.475,-15.1) 50(-6.825,-15.1) 51(-6.175,-15.1) 52(-5.525,-15.1) 53(-4.875,-15.1) 54(-4.225,-15.1) 55(-3.575,-15.1) 56(-2.925,-15.1) 57(-2.275,-15.1) 58(-1.625,-15.1) 59(-0.975,-15.1) 60(-0.325,-15.1) 61(0.325,-15.1) 62(0.975,-15.1) 63(1.625,-15.1) 64(2.275,-15.1) 65(2.925,-15.1) 66(3.575,-15.1) 67(4.225,-15.1) 68(4.875,-15.1) 69(5.525,-15.1) 70(6.175,-15.1) 71(6.825,-15.1) 72(7.475,-15.1) 73(8.125,-15.1) 74(8.775,-15.1) 75(9.425,-15.1) 76(10.075,-15.1) 77(10.725,-15.1) 78(11.375,-15.1) 79(12.025,-15.1) 80(12.675,-15.1) 121(12.675,15.1) 122(12.025,15.1) 123(11.375,15.1) 124(10.725,15.1) 125(10.075,15.1) 126(9.425,15.1) 127(8.775,15.1) 128(8.125,15.1) 129(7.475,15.1) 130(6.825,15.1) 131(6.175,15.1) 132(5.525,15.1) 133(4.875,15.1) 134(4.225,15.1) 135(3.575,15.1) 136(2.925,15.1) 137(2.275,15.1) 138(1.625,15.1) 139(0.975,15.1) 140(0.325,15.1) 141(-0.325,15.1) 142(-0.975,15.1) 143(-1.625,15.1) 144(-2.275,15.1) 145(-2.925,15.1) 146(-3.575,15.1) 147(-4.225,15.1) 148(-4.875,15.1) 149(-5.525,15.1) 150(-6.175,15.1) 151(-6.825,15.1) 152(-7.475,15.1) 153(-8.125,15.1) 154(-8.775,15.1) 155(-9.425,15.1) 156(-10.075,15.1) 157(-10.725,15.1) 158(-11.375,15.1) 159(-12.025,15.1) 160(-12.675,15.1)
Top Overlay:
  circle w0.6: c-12.85,12.85 r0.3
  circle w0.25: c-15.1,13.45 r0.125
  lines w0.2: -13.85,-13.85 13.85,-13.85 13.85,13.85 -13.85,13.85 -13.85,-13.85
Mechanical 13:
  circle w0.1: c-13.1,13.1 r0.5
  lines w0.1: -14,-14 14,-14 14,14 -14,14 -14,-14
Mechanical 15:
  lines w0.1: -0.5,0 0.5,0 ; 0,-0.5 0,0.5 ; -16,-16 16,-16 16,16 -16,16 -16,-16
3D body: height 4.1, standoff 0, extent -14,-14 14,14

## MQFP160_M [mm] "160-Pin Quad Flat Pack 0.65 mm Pitch, IPC Low Density"
height 4.1
pads (160):
  oval 2.25x0.45 smd: 1(-15.2,12.675) 2(-15.2,12.025) 3(-15.2,11.375) 4(-15.2,10.725) 5(-15.2,10.075) 6(-15.2,9.425) 7(-15.2,8.775) 8(-15.2,8.125) 9(-15.2,7.475) 10(-15.2,6.825) 11(-15.2,6.175) 12(-15.2,5.525) 13(-15.2,4.875) 14(-15.2,4.225) 15(-15.2,3.575) 16(-15.2,2.925) 17(-15.2,2.275) 18(-15.2,1.625) 19(-15.2,0.975) 20(-15.2,0.325) 21(-15.2,-0.325) 22(-15.2,-0.975) 23(-15.2,-1.625) 24(-15.2,-2.275) 25(-15.2,-2.925) 26(-15.2,-3.575) 27(-15.2,-4.225) 28(-15.2,-4.875) 29(-15.2,-5.525) 30(-15.2,-6.175) 31(-15.2,-6.825) 32(-15.2,-7.475) 33(-15.2,-8.125) 34(-15.2,-8.775) 35(-15.2,-9.425) 36(-15.2,-10.075) 37(-15.2,-10.725) 38(-15.2,-11.375) 39(-15.2,-12.025) 40(-15.2,-12.675) 81(15.2,-12.675) 82(15.2,-12.025) 83(15.2,-11.375) 84(15.2,-10.725) 85(15.2,-10.075) 86(15.2,-9.425) 87(15.2,-8.775) 88(15.2,-8.125) 89(15.2,-7.475) 90(15.2,-6.825) 91(15.2,-6.175) 92(15.2,-5.525) 93(15.2,-4.875) 94(15.2,-4.225) 95(15.2,-3.575) 96(15.2,-2.925) 97(15.2,-2.275) 98(15.2,-1.625) 99(15.2,-0.975) 100(15.2,-0.325) 101(15.2,0.325) 102(15.2,0.975) 103(15.2,1.625) 104(15.2,2.275) 105(15.2,2.925) 106(15.2,3.575) 107(15.2,4.225) 108(15.2,4.875) 109(15.2,5.525) 110(15.2,6.175) 111(15.2,6.825) 112(15.2,7.475) 113(15.2,8.125) 114(15.2,8.775) 115(15.2,9.425) 116(15.2,10.075) 117(15.2,10.725) 118(15.2,11.375) 119(15.2,12.025) 120(15.2,12.675)
  oval 0.45x2.25 smd: 41(-12.675,-15.2) 42(-12.025,-15.2) 43(-11.375,-15.2) 44(-10.725,-15.2) 45(-10.075,-15.2) 46(-9.425,-15.2) 47(-8.775,-15.2) 48(-8.125,-15.2) 49(-7.475,-15.2) 50(-6.825,-15.2) 51(-6.175,-15.2) 52(-5.525,-15.2) 53(-4.875,-15.2) 54(-4.225,-15.2) 55(-3.575,-15.2) 56(-2.925,-15.2) 57(-2.275,-15.2) 58(-1.625,-15.2) 59(-0.975,-15.2) 60(-0.325,-15.2) 61(0.325,-15.2) 62(0.975,-15.2) 63(1.625,-15.2) 64(2.275,-15.2) 65(2.925,-15.2) 66(3.575,-15.2) 67(4.225,-15.2) 68(4.875,-15.2) 69(5.525,-15.2) 70(6.175,-15.2) 71(6.825,-15.2) 72(7.475,-15.2) 73(8.125,-15.2) 74(8.775,-15.2) 75(9.425,-15.2) 76(10.075,-15.2) 77(10.725,-15.2) 78(11.375,-15.2) 79(12.025,-15.2) 80(12.675,-15.2) 121(12.675,15.2) 122(12.025,15.2) 123(11.375,15.2) 124(10.725,15.2) 125(10.075,15.2) 126(9.425,15.2) 127(8.775,15.2) 128(8.125,15.2) 129(7.475,15.2) 130(6.825,15.2) 131(6.175,15.2) 132(5.525,15.2) 133(4.875,15.2) 134(4.225,15.2) 135(3.575,15.2) 136(2.925,15.2) 137(2.275,15.2) 138(1.625,15.2) 139(0.975,15.2) 140(0.325,15.2) 141(-0.325,15.2) 142(-0.975,15.2) 143(-1.625,15.2) 144(-2.275,15.2) 145(-2.925,15.2) 146(-3.575,15.2) 147(-4.225,15.2) 148(-4.875,15.2) 149(-5.525,15.2) 150(-6.175,15.2) 151(-6.825,15.2) 152(-7.475,15.2) 153(-8.125,15.2) 154(-8.775,15.2) 155(-9.425,15.2) 156(-10.075,15.2) 157(-10.725,15.2) 158(-11.375,15.2) 159(-12.025,15.2) 160(-12.675,15.2)
Top Overlay:
  circle w0.6: c-12.65,12.65 r0.3
  circle w0.25: c-15.2,13.45 r0.125
  lines w0.2: -13.65,-13.65 13.65,-13.65 13.65,13.65 -13.65,13.65 -13.65,-13.65
Mechanical 13:
  circle w0.1: c-13.1,13.1 r0.5
  lines w0.1: -14,-14 14,-14 14,14 -14,14 -14,-14
Mechanical 15:
  lines w0.1: -0.5,0 0.5,0 ; 0,-0.5 0,0.5 ; -16.8,-16.8 16.8,-16.8 16.8,16.8 -16.8,16.8 -16.8,-16.8
3D body: height 4.1, standoff 0, extent -14,-14 14,14